# Altium footprint library RJ Port.PcbLib: 3 footprints
Each footprint in its own frame and in the unit in brackets; x right, y up, seen from the top. Pads: shape width x height; smd on the part's side, far side on the other; paste and mask are expansions set on the pad; w line width, h text height; cw(c..) or ccw(c..) is an arc to the next point about the centre after c.
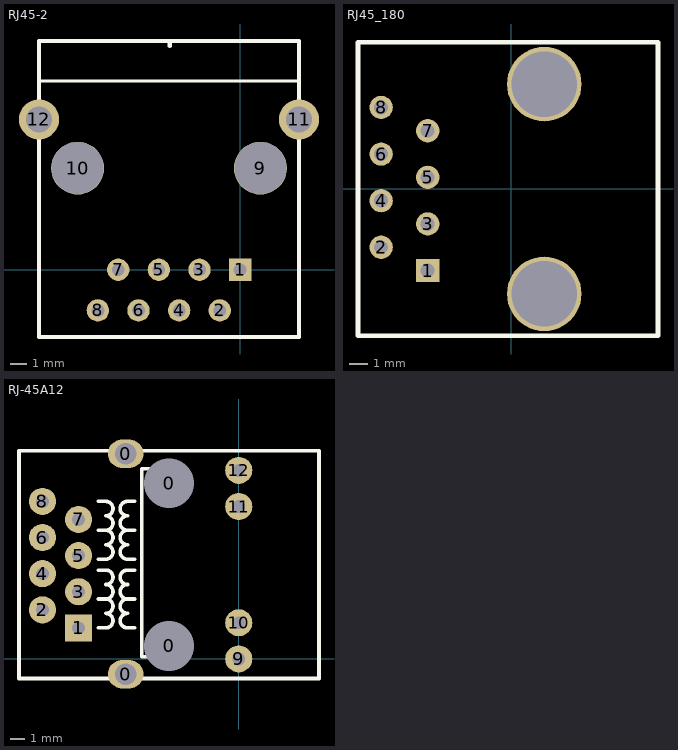
[diagram p0: the footprints below, top view; thin cyan lines are the x and y axes]

## RJ45-2 [mil] "���߽ӿ�"
pads (12):
  rect 55x55 hole 31.5: 1(0,0)
  round 55 hole 31.5: 2(-50,-100) 3(-100,0) 4(-150,-100) 5(-200,0) 6(-250,-100) 7(-300,0) 8(-350,-100)
  round 130 hole 127.95 unplated: 9(50,250) 10(-400,250)
  round 98.42 hole 62.99: 11(145,370) 12(-495,370)
Top Overlay:
  lines w8: -488.19,464.57 141.73,464.57
  lines w10: -495,-165.35 144.65,-165.35 145,-165 145,370 145,562.99 -495,562.99 -495,370 -495,-165 ; -173.23,551.18 -173.23,559.06
3D body "Mod-Jack-K122449007-Stig-W.STEP": height 127.85, standoff -555.12, extent -490,-172.17 139.92,556.17

## RJ45_180 [mil] "���߽ӿ�"
height 53.15
pads (10):
  rect 50x50 hole 30: 1(-179.13,-175)
  round 50 hole 30: 2(-279.13,-125) 3(-179.13,-75) 4(-279.13,-25) 5(-179.13,25) 6(-279.13,75) 7(-179.13,125) 8(-279.13,175)
  round 160 hole 140: ""(70.87,-225) ""(70.87,225)
Top Overlay:
  lines w10: -328.74,-314.96 -328.74,314.96 314.96,314.96 314.96,-314.96 -328.74,-314.96
3D body "RJ-45, 8P8C, MOD JACK, TOP ENTRY, CAT 5E, RIA AJT26A8813.STEP": height 641.73, standoff -129.92, extent -313.88,-296.61 308.16,313.62

## RJ-45A12 [mil] "���߽ӿ�"
pads (16):
  oval 98.43x78.74 hole 59.06: 0(-312.99,-42.13) 0(-312.99,567.32)
  round 130 hole 137.8: 0(-192.91,35.83) 0(-192.91,485.83)
  rect 75x75 hole 35.43: 1(-442.91,85.83)
  round 75 hole 35.43: 2(-542.91,135.83) 3(-442.91,185.83) 4(-542.91,235.83) 5(-442.91,285.83) 6(-542.91,335.83) 7(-442.91,385.83) 8(-542.91,435.83) 9(0,0) 10(0,100) 11(0,421.65) 12(0,521.65)
Top Overlay:
  lines w10: -387.91,85.83 -367.91,85.83 ccw(c-367.91,105.83) -367.91,125.83 ccw(c-367.91,145.83) -367.91,165.83 ; -387.91,165.83 -367.91,165.83 ; -387.91,245.83 -367.91,245.83 cw(c-367.91,225.83) -367.91,205.83 cw(c-367.91,185.83) -367.91,165.83 ; -387.91,275.83 -367.91,275.83 ccw(c-367.91,295.83) -367.91,315.83 ccw(c-367.91,335.83) -367.91,355.83 ; -387.91,355.83 -367.91,355.83 ; -387.91,435.83 -367.91,435.83 cw(c-367.91,415.83) -367.91,395.83 cw(c-367.91,375.83) -367.91,355.83 ; -287.91,85.83 -307.91,85.83 cw(c-307.91,105.83) -307.91,125.83 cw(c-307.91,145.83) -307.91,165.83 ; -287.91,165.83 -307.91,165.83 ; -287.91,245.83 -307.91,245.83 ccw(c-307.91,225.83) -307.91,205.83 ccw(c-307.91,185.83) -307.91,165.83 ; -287.91,275.83 -307.91,275.83 cw(c-307.91,295.83) -307.91,315.83 cw(c-307.91,335.83) -307.91,355.83 ; -287.91,355.83 -307.91,355.83 ; -287.91,435.83 -307.91,435.83 ccw(c-307.91,415.83) -307.91,395.83 ccw(c-307.91,375.83) -307.91,355.83 ; -247.91,5.83 -267.91,5.83 -267.91,525.83 -247.91,525.83 ; -607.91,-54.17 222,-54.17 222,575.83 -607.91,575.83 -607.91,-54.17
Multi-Layer:
  text "J10" at -517.7,505.32 h25
3D body "HanRun-HR911105A.STEP": height 59.06, standoff -590.55, extent -605.26,-53 237.26,572.19